# EAGLE library part LTC3531ES6-3_3 (library LTC3531ES6-3_3)
Check prices <https://pricing.snapeda.com/parts/LTC3531ES6-3.3/Analog%20Devices%20/%20Linear%20Technology/view-part?ref=eda>
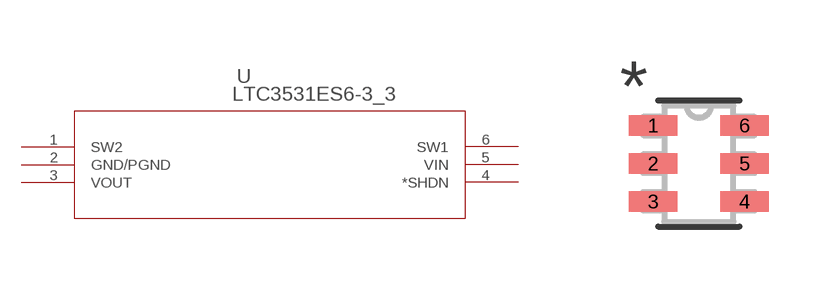
[diagram p0: symbol with the pads of TSOT-23_S6; footprint TSOT-23_S6]

Designator prefix U

## LTC3531ES6-3_3 (Availability: Bad; Description: Buck-Boost Switching Regulator IC Positive Fixed 3.32V 1 Output 200mA SOT-23-6 Thin, TSOT-23-6; MF: Analog Devices / Linear Technology; MP: LTC3531ES6-3.3; Package: SOT-23-6 Analog Devices / Linear Technology; Price: None)  [TSOT-23_S6]
1  SW2  pas
2  GND/PGND  pwr
3  VOUT  out
4  *SHDN  pas
5  VIN  in
6  SW1  pas

## Footprint TSOT-23_S6 (pad centres in mm)
smd 1.219 x 0.508: 1 -1.143,0.95; 2 -1.143,0; 3 -1.143,-0.95; 4 1.143,-0.95; 5 1.143,0; 6 1.143,0.95